# Altium schematic symbol library AO3400A.SchLib: 1 symbol
Pins are listed as number, name and electrical type; pins without a type are passive.

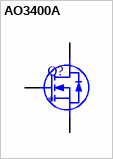
[diagram p0: symbol AO3400A]

## AO3400A
designator Q?
MOSFET N-CH 30V 5.7A SOT-23-3; MP: AO3400A; Package: None; Price: None; Availability: Unavailable; Value: *
pins: 1 G, 2 S, 3 D